# Altium footprint library Revo_element.PcbLib: 178 footprints (part 10 of 12)
Each footprint in its own frame and in the unit in brackets; x right, y up, seen from the top. Pads: shape width x height; smd on the part's side, far side on the other; paste and mask are expansions set on the pad; w line width, h text height; cw(c..) or ccw(c..) is an arc to the next point about the centre after c.
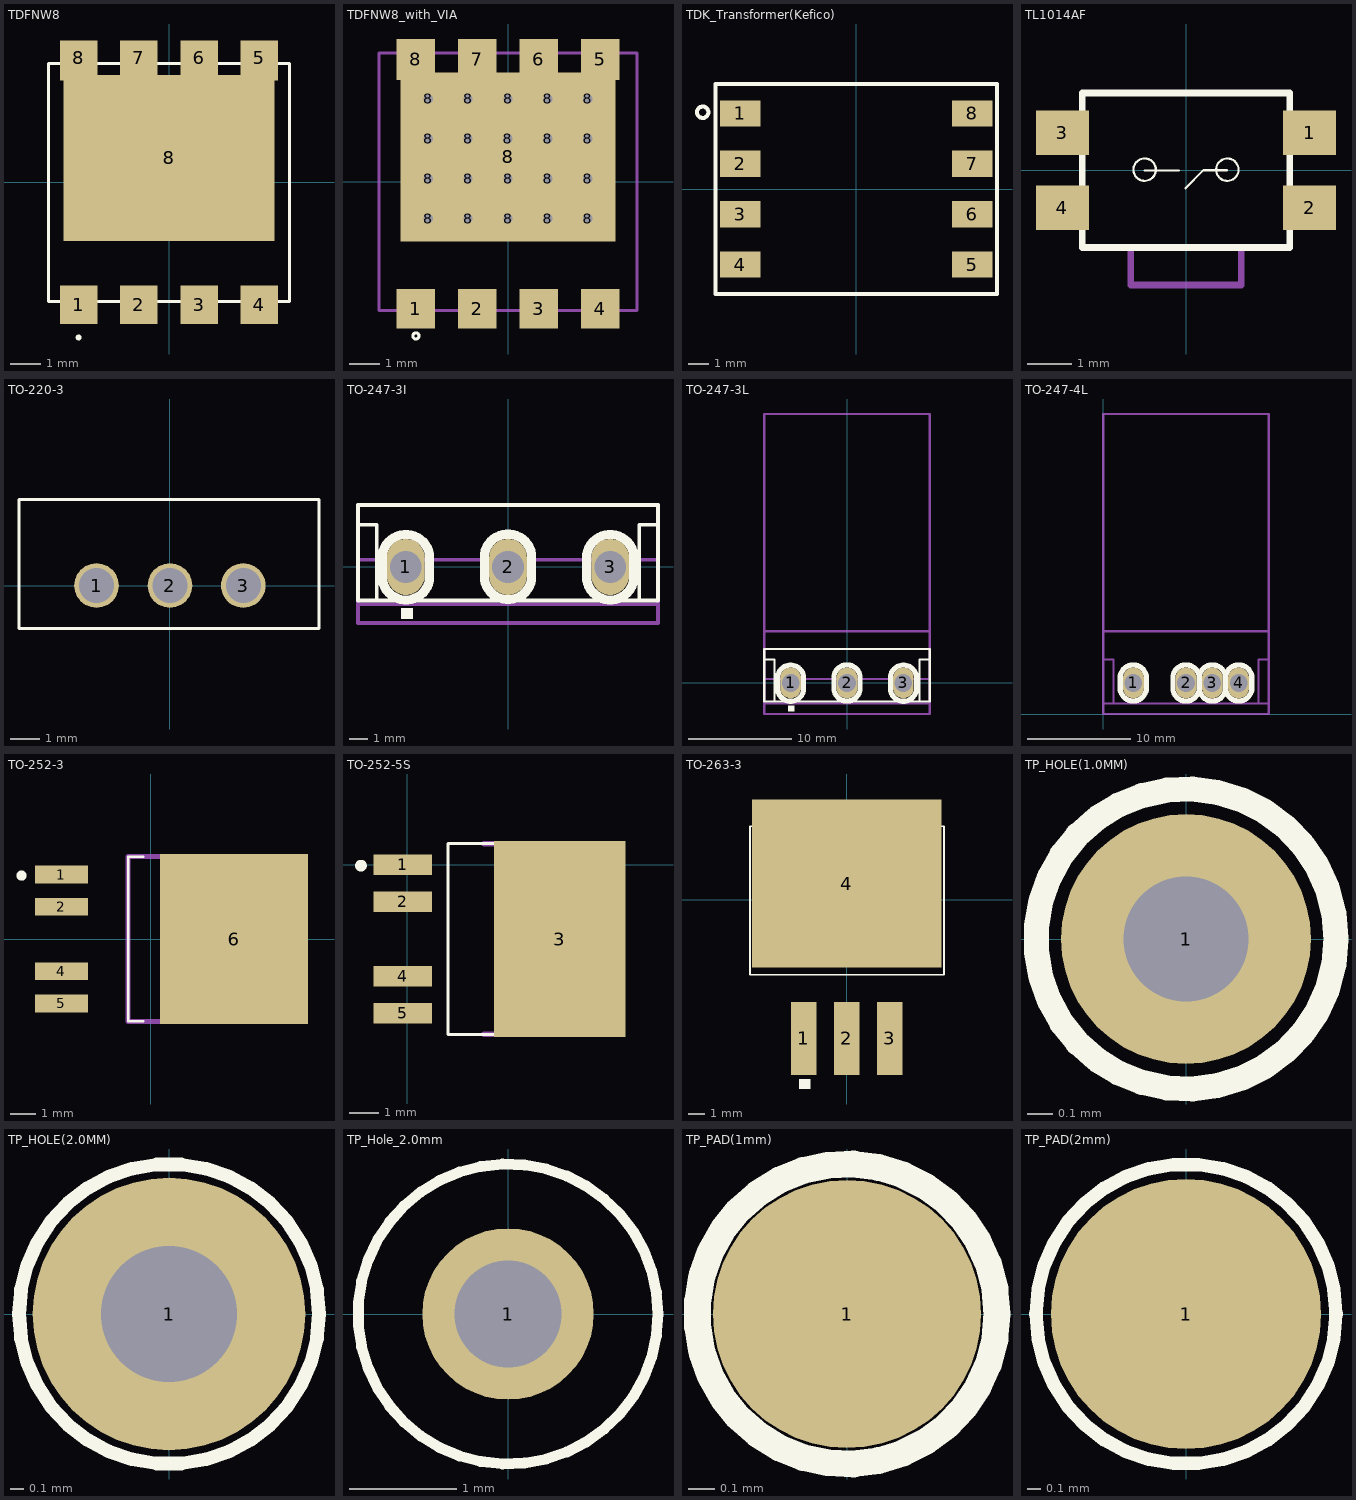
[diagram p9: the footprints below, top view; thin cyan lines are the x and y axes]

## TDFNW8 [mm]
pads (11):
  rect 1.25x1.28 smd: 1(-3,-4.07) 2(-1,-4.07) 3(1,-4.07) 4(3,-4.07)
  rect 1.25x1.15 smd: 5(3,4.135) 6(1,4.135) 7(-1,4.135) 8(-3,4.135)
  rect 0.125x0.18 smd: 8(-3.563,3.47) 8(3.563,3.47)
  rect 7x5.5 smd: 8(0,0.81)
Top Overlay:
  lines w0.1: -4,-3.95 4,-3.95 4,3.95 -4,3.95 -4,-3.95 ; -3,-5.2 cw(c-3,-5.15) -3,-5.1 cw(c-3,-5.15) -3,-5.2
3D body "NVMTSC4D3N15MC.stp": height 1.02, standoff 0, extent -4.15,-4.2 4.15,4.2

## TDFNW8_with_VIA [mm]
pads (29):
  rect 1.25x1.28 smd: 1(-3,-4.14) 2(-1,-4.14) 3(1,-4.14) 4(3,-4.14)
  rect 1.25x1.33 smd: 5(3,3.985) 6(1,3.985) 7(-1,3.985) 8(-3,3.985)
  round 0.6 hole 0.3 mask+0.102: 8(-2.6,-1.2) 8(-2.6,0.1) 8(-2.6,1.4) 8(-2.6,2.7) 8(-1.3,-1.2) 8(-1.3,0.1) 8(-1.3,1.4) 8(-1.3,2.7) 8(0,1.4) 8(0,-1.2) 8(0,0.1) 8(0,2.7) 8(1.3,-1.2) 8(1.3,0.1) 8(1.3,1.4) 8(1.3,2.7) 8(2.6,-1.2) 8(2.6,0.1) 8(2.6,1.4) 8(2.6,2.7)
  rect 7x5.5 smd: 8(0,0.81)
Top Overlay:
  lines w0.1: -3,-5.123 cw(c-3,-5.023) -3,-4.923 cw(c-3,-5.023) -3,-5.123
Mechanical 15:
  lines w0.1: -4.2,-4.2 4.2,-4.2 4.2,4.2 -4.2,4.2 -4.2,-4.2
3D body "NVMTSC4D3N15MC.stp": height 1.02, standoff 0, extent -4.15,-4.2 4.15,4.2

## TDK_Transformer(Kefico) [mm] "1:1 SMD type Transformer"
pads (8):
  rect 2x1.3 smd: 1(-5.75,3.75) 2(-5.75,1.25) 3(-5.75,-1.25) 4(-5.75,-3.75) 5(5.75,-3.75) 6(5.75,-1.25) 7(5.75,1.25) 8(5.75,3.75)
Top Overlay:
  circle w0.2: c-7.62,3.81 r0.283
  lines w0.2: -6.985,-5.207 6.985,-5.207 6.985,5.207 -6.985,5.207 -6.985,-5.207
3D body "b78417a_ep7.step": height 9.25, standoff 0, extent -6.35,-4.85 6.35,4.85

## TL1014AF [mm] "Side Tect Switch"
pads (4):
  rect 1.2x1 smd paste+0: 1(2.8,0.85) 2(2.8,-0.85) 3(-2.8,0.85) 4(-2.8,-0.85)
Top Overlay:
  circle w0.05: c0.937,0.013 r0.254
  circle w0.05: c-0.938,0.013 r0.254
  circle w0.05: c-0.938,0.013 r0.254
  lines w0.051: -0.938,-0.007 -0.163,-0.007 ; -0.013,-0.407 0.394,0 0.923,0
  lines w0.152: -2.35,-1.75 2.35,-1.75 2.35,1.75 -2.35,1.75 -2.35,-1.75
Mechanical 15:
  lines w0.152: -1.25,-1.75 -1.25,-2.6 1.25,-2.6 1.25,-1.75
3D body "SWITCH_TACT_TL1014AF160QG_[E-SWITCH].step": height 1.65, standoff 0, extent -3.2,-2.75 3.2,1.75

## TO-220-3 [mm]
pads (3):
  round 1.52 hole 1.2: 1(-2.5,0) 2(0,0) 3(2.5,0)
Top Overlay:
  lines w0.1: -5.14,-1.47 5.075,-1.47 5.075,2.935 -5.14,2.935 -5.14,-1.47
3D body "User Library-Transistor TO 220.step": height 15.8, standoff -10, extent -5.19,-1.52 5.11,2.98

## TO-247-3I [mm]
pads (3):
  oval 2x3 hole 1.7: 1(-5.45,0) 2(0,0) 3(5.45,0)
Top Overlay:
  rectangle: -5.72,-2.78 -5.06,-2.19
  lines w0.2: -8,2.25 -7,2.25 -7,-1.769 ; 7,-1.756 7,2.25 8,2.25 ; -8,-1.8 8,-1.8 8,3.3 -8,3.3 -8,-1.8
  lines w0.5: -6.697,-0.222 -6.697,0.678 cw(c-5.447,0.458) -4.197,0.678 -4.197,-0.222 ; -6.697,0.178 -6.697,-0.722 ccw(c-5.447,-0.502) -4.197,-0.722 -4.197,0.178 ; -1.25,-0.2 -1.25,0.7 cw(c0,0.48) 1.25,0.7 1.25,-0.2 ; -1.25,0.2 -1.25,-0.7 ccw(c0,-0.48) 1.25,-0.7 1.25,0.2 ; 4.203,-0.222 4.203,0.678 cw(c5.453,0.458) 6.703,0.678 6.703,-0.222 ; 4.203,0.178 4.203,-0.722 ccw(c5.453,-0.502) 6.703,-0.722 6.703,0.178
Bottom Overlay:
  region: -5.06,-2.2 -5.72,-2.2 -5.72,-2.79 -5.06,-2.79
  lines w0.2: -8,2.25 -7,2.25 -7,-1.769 ; 7,-1.756 7,2.25 8,2.25 ; -8,-1.8 8,-1.8 8,3.3 -8,3.3 -8,-1.8
  lines w0.5: -6.697,-0.722 ccw(c-5.447,-0.502) -4.197,-0.722 ; -6.697,-0.722 ccw(c-5.447,-0.502) -4.197,-0.722 ; -6.697,-0.722 -6.697,0.178 -6.697,-0.722 ; -6.697,0.678 cw(c-5.447,0.458) -4.197,0.678 ; -6.697,0.678 cw(c-5.447,0.458) -4.197,0.678 ; -6.697,0.678 -6.697,-0.222 -6.697,0.678 ; -4.197,-0.722 -4.197,0.178 -4.197,-0.722 ; -4.197,0.678 -4.197,-0.222 -4.197,0.678 ; -1.25,-0.7 ccw(c0,-0.48) 1.25,-0.7 ; -1.25,-0.7 ccw(c0,-0.48) 1.25,-0.7 ; -1.25,-0.7 -1.25,0.2 -1.25,-0.7 ; -1.25,0.7 cw(c0,0.48) 1.25,0.7 ; -1.25,0.7 cw(c0,0.48) 1.25,0.7 ; -1.25,0.7 -1.25,-0.2 -1.25,0.7 ; 1.25,-0.7 1.25,0.2 1.25,-0.7 ; 1.25,0.7 1.25,-0.2 1.25,0.7 ; 4.203,-0.722 ccw(c5.453,-0.502) 6.703,-0.722 ; 4.203,-0.722 ccw(c5.453,-0.502) 6.703,-0.722 ; 4.203,-0.722 4.203,0.178 4.203,-0.722 ; 4.203,0.678 cw(c5.453,0.458) 6.703,0.678 ; 4.203,0.678 cw(c5.453,0.458) 6.703,0.678 ; 4.203,0.678 4.203,-0.222 4.203,0.678 ; 6.703,-0.722 6.703,0.178 6.703,-0.722 ; 6.703,0.678 6.703,-0.222 6.703,0.678
Mechanical 1:
  lines w0.2: -8,0.381 8,0.381 ; -8,2.25 -8,-2 ; -7,-2 -8,-2 ; 7,-2 8,-2 ; 8,2.25 8,-2 ; -8,-2 -8,3.3 ; -8,-2 8,-2 ; -8,3.3 8,3.3 ; -8,3.3 8,3.3 ; -8,3.3 -8,-3 8,-3 8,3.3 ; 8,-2 8,3.3
3D body "TO-247.STEP": height 13.5, standoff -25.5, extent -7.61,-3.19 7.89,1.81

## TO-247-3L [mm]
pads (3):
  oval 2x3 hole 1.7: 1(-5.45,0) 2(0,0) 3(5.45,0)
Top Overlay:
  rectangle: -5.72,-2.78 -5.06,-2.19
  lines w0.2: -8,2.25 -7,2.25 -7,-1.769 ; 7,-1.756 7,2.25 8,2.25 ; -8,-1.8 8,-1.8 8,3.3 -8,3.3 -8,-1.8
  lines w0.5: -6.697,-0.222 -6.697,0.678 cw(c-5.447,0.458) -4.197,0.678 -4.197,-0.222 ; -6.697,0.178 -6.697,-0.722 ccw(c-5.447,-0.502) -4.197,-0.722 -4.197,0.178 ; -1.25,-0.2 -1.25,0.7 cw(c0,0.48) 1.25,0.7 1.25,-0.2 ; -1.25,0.2 -1.25,-0.7 ccw(c0,-0.48) 1.25,-0.7 1.25,0.2 ; 4.203,-0.222 4.203,0.678 cw(c5.453,0.458) 6.703,0.678 6.703,-0.222 ; 4.203,0.178 4.203,-0.722 ccw(c5.453,-0.502) 6.703,-0.722 6.703,0.178
Bottom Overlay:
  region: -5.06,-2.2 -5.72,-2.2 -5.72,-2.79 -5.06,-2.79
  lines w0.2: -8,2.25 -7,2.25 -7,-1.769 ; 7,-1.756 7,2.25 8,2.25 ; -8,-1.8 8,-1.8 8,3.3 -8,3.3 -8,-1.8
  lines w0.5: -6.697,-0.722 ccw(c-5.447,-0.502) -4.197,-0.722 ; -6.697,-0.722 ccw(c-5.447,-0.502) -4.197,-0.722 ; -6.697,-0.722 -6.697,0.178 -6.697,-0.722 ; -6.697,0.678 cw(c-5.447,0.458) -4.197,0.678 ; -6.697,0.678 cw(c-5.447,0.458) -4.197,0.678 ; -6.697,0.678 -6.697,-0.222 -6.697,0.678 ; -4.197,-0.722 -4.197,0.178 -4.197,-0.722 ; -4.197,0.678 -4.197,-0.222 -4.197,0.678 ; -1.25,-0.7 ccw(c0,-0.48) 1.25,-0.7 ; -1.25,-0.7 ccw(c0,-0.48) 1.25,-0.7 ; -1.25,-0.7 -1.25,0.2 -1.25,-0.7 ; -1.25,0.7 cw(c0,0.48) 1.25,0.7 ; -1.25,0.7 cw(c0,0.48) 1.25,0.7 ; -1.25,0.7 -1.25,-0.2 -1.25,0.7 ; 1.25,-0.7 1.25,0.2 1.25,-0.7 ; 1.25,0.7 1.25,-0.2 1.25,0.7 ; 4.203,-0.722 ccw(c5.453,-0.502) 6.703,-0.722 ; 4.203,-0.722 ccw(c5.453,-0.502) 6.703,-0.722 ; 4.203,-0.722 4.203,0.178 4.203,-0.722 ; 4.203,0.678 cw(c5.453,0.458) 6.703,0.678 ; 4.203,0.678 cw(c5.453,0.458) 6.703,0.678 ; 4.203,0.678 4.203,-0.222 4.203,0.678 ; 6.703,-0.722 6.703,0.178 6.703,-0.722 ; 6.703,0.678 6.703,-0.222 6.703,0.678
Mechanical 1:
  lines w0.2: -8,0.381 8,0.381 ; -8,2.25 -8,-2 ; -7,-2 -8,-2 ; 7,-2 8,-2 ; 8,2.25 8,-2 ; -8,-2 -8,26 8,26 8,-2 ; -8,-2 8,-2 ; -8,-3 8,-3 8,5 -8,5 -8,-3
3D body "TO247.step": height 4.96, standoff -12.9, extent -7.973,-0.125 7.942,26.7

## TO-247-4L [mm]
pads (4):
  oval 2x3 hole 1.7: 1(2.92,3) 2(8,3) 3(10.54,3) 4(13.08,3)
Top Overlay:
  lines w0.5: 1.65,2.8 1.65,3.7 cw(c2.9,3.48) 4.15,3.7 4.15,2.8 ; 1.65,3.2 1.65,2.3 ccw(c2.9,2.52) 4.15,2.3 4.15,3.2 ; 6.75,2.8 6.75,3.7 cw(c8,3.48) 9.25,3.7 9.25,2.8 ; 6.75,3.2 6.75,2.3 ccw(c8,2.52) 9.25,2.3 9.25,3.2 ; 9.3,2.8 9.3,3.7 cw(c10.55,3.48) 11.8,3.7 11.8,2.8 ; 9.3,3.2 9.3,2.3 ccw(c10.55,2.52) 11.8,2.3 11.8,3.2 ; 11.85,2.8 11.85,3.7 cw(c13.1,3.48) 14.35,3.7 14.35,2.8 ; 11.85,3.2 11.85,2.3 ccw(c13.1,2.52) 14.35,2.3 14.35,3.2
Bottom Overlay:
  lines w0.2: 0,3.381 16,3.381 ; 0,1.2 16,1.2 16,6.3 0,6.3 0,1.2
  lines w0.5: 1.65,2.8 1.65,3.7 cw(c2.9,3.48) 4.15,3.7 4.15,2.8 ; 1.65,3.2 1.65,2.3 ccw(c2.9,2.52) 4.15,2.3 4.15,3.2 ; 6.75,2.8 6.75,3.7 cw(c8,3.48) 9.25,3.7 9.25,2.8 ; 6.75,3.2 6.75,2.3 ccw(c8,2.52) 9.25,2.3 9.25,3.2 ; 9.3,2.8 9.3,3.7 cw(c10.55,3.48) 11.8,3.7 11.8,2.8 ; 9.3,3.2 9.3,2.3 ccw(c10.55,2.52) 11.8,2.3 11.8,3.2 ; 11.85,2.8 11.85,3.7 cw(c13.1,3.48) 14.35,3.7 14.35,2.8 ; 11.85,3.2 11.85,2.3 ccw(c13.1,2.52) 14.35,2.3 14.35,3.2
Mechanical 16:
  lines w0.2: 0,1 0,5.25 1,5.25 1,1 0,1 ; 0,1 0,29 16,29 16,1 ; 0,1 16,1 ; 16,1 16,5.25 15,5.25 15,1 16,1 ; 0,0 0,8 16,8 16,0 0,0

## TO-252-3 [mm]
pads (5):
  rect 2.1x0.7 smd: 1(-3.525,2.54) 2(-3.525,1.27) 4(-3.525,-1.27) 5(-3.525,-2.54)
  rect 5.85x6.7 smd: 6(3.275,0)
Top Overlay:
  lines w0.1: -0.3,-3.25 -0.9,-3.25 -0.9,3.25 -0.3,3.25
  lines w0.2: -5.1,2.4 cw(c-5.1,2.5) -5.1,2.6 cw(c-5.1,2.5) -5.1,2.4
Mechanical 13:
  lines w0.2: -0.9,-3.25 5.2,-3.25 5.2,3.25 -0.9,3.25 -0.9,-3.25
3D body: height 2, standoff 0, extent -3.708,-3.404 5.131,3.378

## TO-252-5S [mm]
pads (5):
  rect 2x0.7 smd: 1(-0.15,0) 2(-0.15,-1.27) 4(-0.15,-3.81) 5(-0.15,-5.08)
  rect 4.5x6.7 smd: 3(5.207,-2.54)
Top Overlay:
  lines w0.1: 3.225,-5.79 1.4,-5.79 1.4,0.71 3.225,0.71
  lines w0.2: -1.575,-0.14 ccw(c-1.575,-0.04) -1.575,0.06 ccw(c-1.575,-0.04) -1.575,-0.14
Mechanical 13:
  lines w0.2: 2.625,-5.79 7.112,-5.79 7.112,0.71 2.625,0.71
3D body "TO-252-5S(A).STEP": height 1.25, standoff -0.01, extent 0,-5.74 6.5,0.66

## TO-263-3 [mil]
pads (4):
  rect 60x170 smd: 1(-100,-321.77) 2(0,-321.77) 3(100,-321.77)
  rect 440x390 smd: 4(0,38.23)
Top Overlay:
  rectangle: -110.63,-439.76 -84.65,-416.54
  lines w3.94: -225.2,-173.9 226.42,-173.9 226.42,171.57 -225.2,171.57 -225.2,-173.9
3D body "TO263-3-1.stp": height 165.95, standoff 0, extent -193.34,-376.4 193.34,198.47

## TP_HOLE(1.0MM) [mm]
pads (1):
  round 1 hole 0.5 mask+0.1: 1(0,0)
Top Overlay:
  circle w0.1: c0,0 r0.6

## TP_HOLE(2.0MM) [mm]
pads (1):
  round 2 hole 1 mask+0.1: 1(0,0)
Top Overlay:
  circle w0.1: c0,0 r1.1

## TP_Hole_2.0mm [mm] "test point - Circle Hole 2.0pai"
pads (1):
  round 1.6 hole 1: 1(0,0)
Top Overlay:
  circle w0.1: c0,0 r1.4

## TP_PAD(1mm) [mm]
pads (1):
  round 1 smd: 1(0,0)
Top Overlay:
  circle w0.1: c0,0 r0.559

## TP_PAD(2mm) [mm]
pads (1):
  round 2 smd: 1(0,0)
Top Overlay:
  circle w0.1: c0,0 r1.11